# Altium integrated library FPGA PB30 Port-Plugin.IntLib: 6 symbols
Pins are listed as number, name and electrical type; pins without a type are passive.

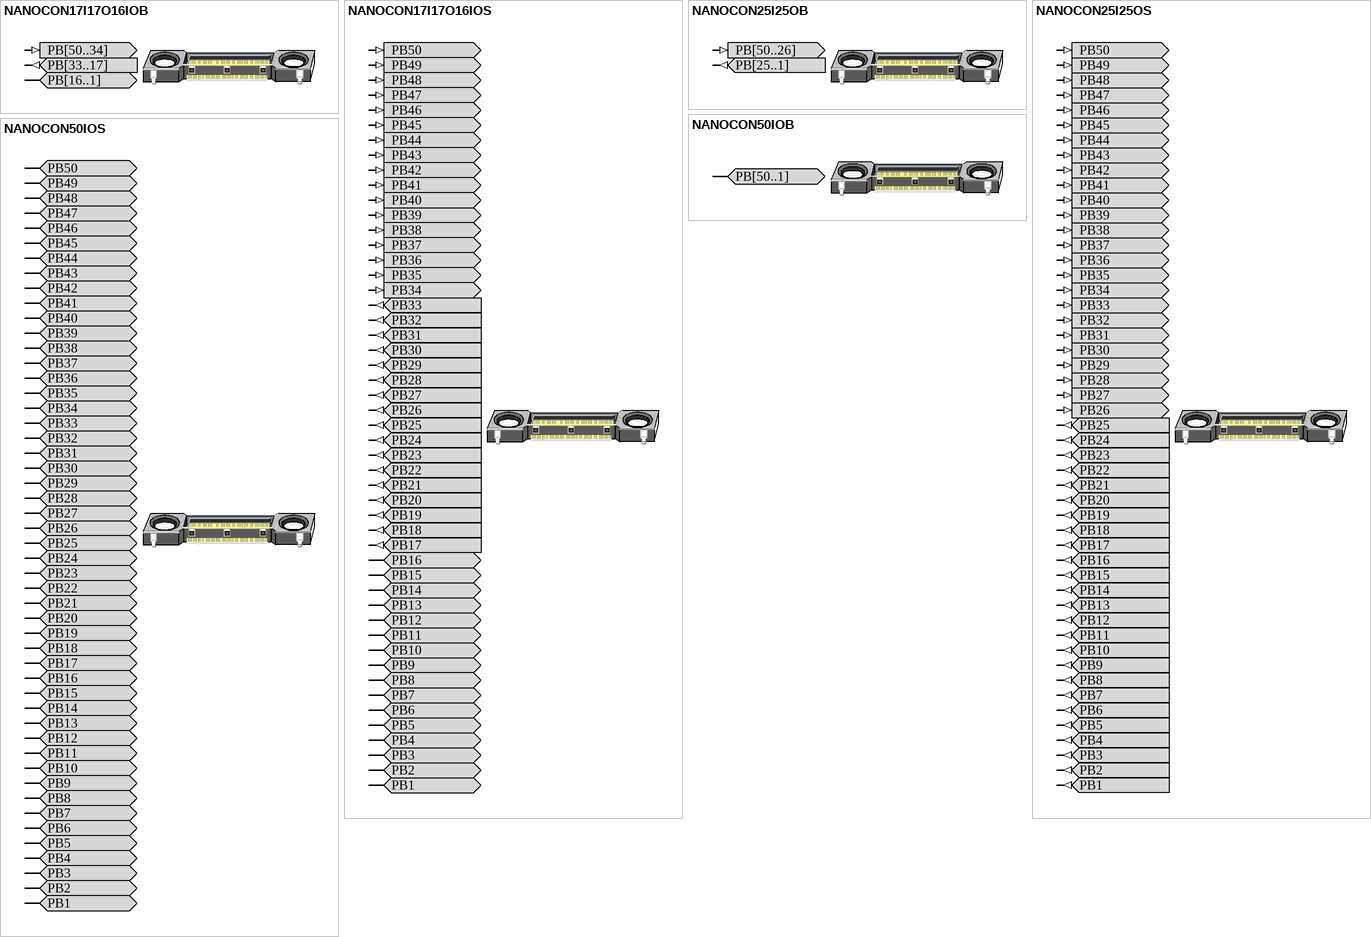
[diagram p0: symbols NANOCON17I17O16IOB to NANOCON50IOS]

## NANOCON17I17O16IOB
designator ?  (value not drawn)
17 Bus Input, 17 Bus Output and 16 Bus Bi-Directional Port Connector; PortComponent: True; Published: 15-Dec-2009; Publisher: Altium Limited; HelpURL: https://wiki.altium.com/display/ADOH/NanoBoard+3000+-+Nanoconnector
pins: PB[16..1] (io), PB[33..17] (out), PB[50..34] (in)

## NANOCON17I17O16IOS
designator ?  (value not drawn)
17 Single Input, 17 Single Output and 16 Single Bi-Directional Port Connector; PortComponent: True; Published: 15-Dec-2009; Publisher: Altium Limited; HelpURL: https://wiki.altium.com/display/ADOH/NanoBoard+3000+-+Nanoconnector
pins: PB1 (io), PB2 (io), PB3 (io), PB4 (io), PB5 (io), PB6 (io), PB7 (io), PB8 (io), PB9 (io), PB10 (io), PB11 (io), PB12 (io), PB13 (io), PB14 (io), PB15 (io), PB16 (io), PB17 (out), PB18 (out), PB19 (out), PB20 (out), PB21 (out), PB22 (out), PB23 (out), PB24 (out), PB25 (out), PB26 (out), PB27 (out), PB28 (out), PB29 (out), PB30 (out), PB31 (out), PB32 (out), PB33 (out), PB34 (in), PB35 (in), PB36 (in), PB37 (in), PB38 (in), PB39 (in), PB40 (in), PB41 (in), PB42 (in), PB43 (in), PB44 (in), PB45 (in), PB46 (in), PB47 (in), PB48 (in), PB49 (in), PB50 (in)

## NANOCON25I25OB
designator ?  (value not drawn)
25 Bus Input and 25 Bus Output Port Connector; PortComponent: True; Published: 15-Dec-2009; Publisher: Altium Limited; HelpURL: https://wiki.altium.com/display/ADOH/NanoBoard+3000+-+Nanoconnector
pins: PB[25..1] (out), PB[50..26] (in)

## NANOCON25I25OS
designator ?  (value not drawn)
25 Single Input and 25 Single Output Port Connector; PortComponent: True; Published: 15-Dec-2009; Publisher: Altium Limited; HelpURL: https://wiki.altium.com/display/ADOH/NanoBoard+3000+-+Nanoconnector
pins: PB1 (out), PB2 (out), PB3 (out), PB4 (out), PB5 (out), PB6 (out), PB7 (out), PB8 (out), PB9 (out), PB10 (out), PB11 (out), PB12 (out), PB13 (out), PB14 (out), PB15 (out), PB16 (out), PB17 (out), PB18 (out), PB19 (out), PB20 (out), PB21 (out), PB22 (out), PB23 (out), PB24 (out), PB25 (out), PB26 (in), PB27 (in), PB28 (in), PB29 (in), PB30 (in), PB31 (in), PB32 (in), PB33 (in), PB34 (in), PB35 (in), PB36 (in), PB37 (in), PB38 (in), PB39 (in), PB40 (in), PB41 (in), PB42 (in), PB43 (in), PB44 (in), PB45 (in), PB46 (in), PB47 (in), PB48 (in), PB49 (in), PB50 (in)

## NANOCON50IOB
designator ?  (value not drawn)
50 Bus Bi-Directional Port Connector; PortComponent: True; Published: 15-Dec-2009; Publisher: Altium Limited; HelpURL: https://wiki.altium.com/display/ADOH/NanoBoard+3000+-+Nanoconnector
pins: PB[50..1] (io)

## NANOCON50IOS
designator ?  (value not drawn)
50 Single Bi-Directional Port Connector; PortComponent: True; Published: 15-Dec-2009; Publisher: Altium Limited; HelpURL: https://wiki.altium.com/display/ADOH/NanoBoard+3000+-+Nanoconnector
pins: PB1 (io), PB2 (io), PB3 (io), PB4 (io), PB5 (io), PB6 (io), PB7 (io), PB8 (io), PB9 (io), PB10 (io), PB11 (io), PB12 (io), PB13 (io), PB14 (io), PB15 (io), PB16 (io), PB17 (io), PB18 (io), PB19 (io), PB20 (io), PB21 (io), PB22 (io), PB23 (io), PB24 (io), PB25 (io), PB26 (io), PB27 (io), PB28 (io), PB29 (io), PB30 (io), PB31 (io), PB32 (io), PB33 (io), PB34 (io), PB35 (io), PB36 (io), PB37 (io), PB38 (io), PB39 (io), PB40 (io), PB41 (io), PB42 (io), PB43 (io), PB44 (io), PB45 (io), PB46 (io), PB47 (io), PB48 (io), PB49 (io), PB50 (io)